# Altium footprint library TEXT_ALL_STROKE_FONTS.PcbLib: 1 footprints
Each footprint in its own frame and in the unit in brackets; x right, y up, seen from the top. Pads: shape width x height; smd on the part's side, far side on the other; paste and mask are expansions set on the pad; w line width, h text height; cw(c..) or ccw(c..) is an arc to the next point about the centre after c.
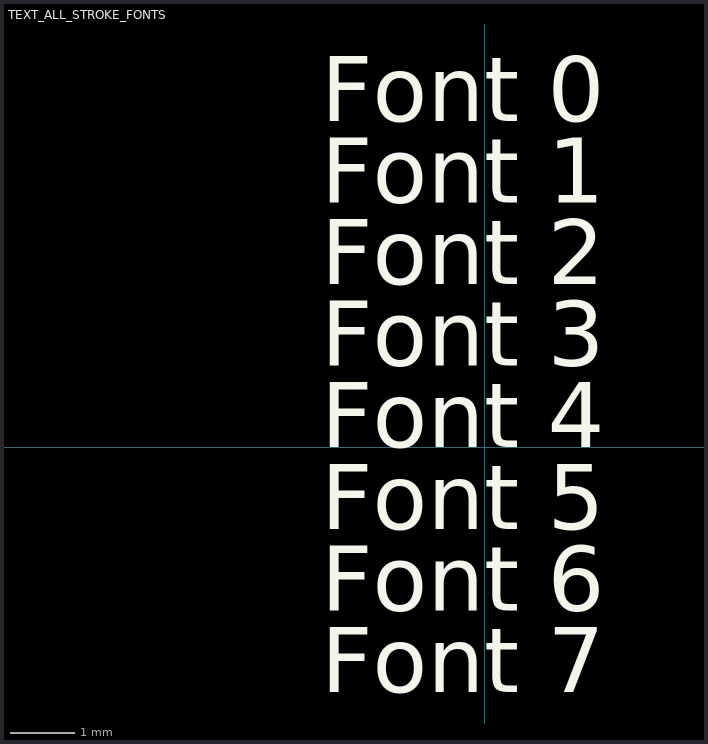
[diagram p0: the footprint, top view; thin cyan lines are the x and y axes]

## TEXT_ALL_STROKE_FONTS [mm] "Text with all stroke font IDs"
Top Overlay:
  text "Font 7" at -2.54,-3.81 h1.02
  text "Font 6" at -2.54,-2.54 h1.02
  text "Font 5" at -2.54,-1.27 h1.02
  text "Font 4" at -2.54,0 h1.02
  text "Font 3" at -2.54,1.27 h1.02
  text "Font 2" at -2.54,2.54 h1.02
  text "Font 1" at -2.54,3.81 h1.02
  text "Font 0" at -2.54,5.08 h1.02